# Altium schematic symbol library EDR_Deliverybox.SCHLIB: 17 symbols
Pins are listed as number, name and electrical type; pins without a type are passive.

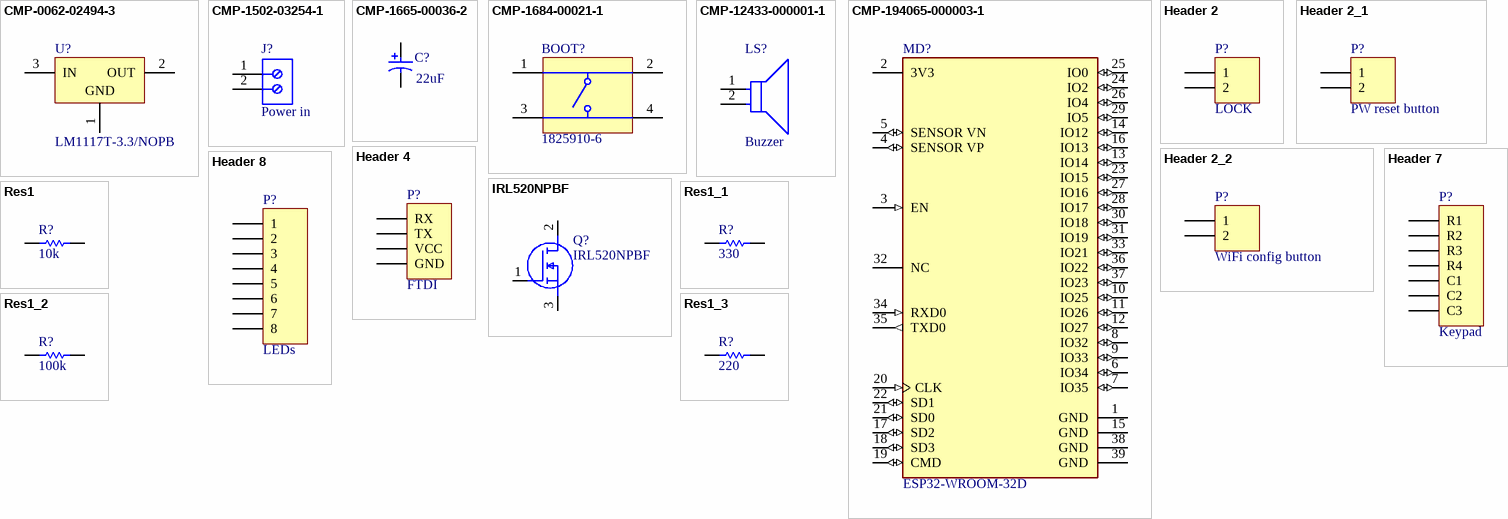
[diagram p0: symbols CMP-0062-02494-3 to Res1_3]

## CMP-0062-02494-3
designator U?, comment LM1117T-3.3/NOPB
800mA Low-Dropout Linear Regulator, 3-pin TO-220, Pb-Free; Manufacturer: Texas Instruments; Manufacturer: TI National Semiconductor; PackageTopMarking: NSUZXYTTE#*LM1117T*3.3; PowerWise: N; CompType: LDO IC; RoHS: Y; ComponentLink1URL: http://www.ti.com/general/docs/lit/getliterature.tsp?genericPartNumber=LM1117-N&fileType=pdf; PackageReference: NDE0003A; PinCount: 3; ComponentLink1Description: Datasheet URL; PackageDescription: TO-220, Molded, 3 Lead, Straight; Manufacturer Part Number: LM1117T-3.3/NOPB
footprint NDE0003A (FM, 3-Leads, Body 10.7x4.7mm, Pitch 2.54mm)
pins: 1 GND (power), 2 OUT (power), 3 IN (power)

## CMP-1502-03254-1
designator J?, comment Power in
Series 1031 - 3.50 mm Horizontal Entry Modular with Pressure Clamp WR-TBL, 2 pin; Manufacturer: Wurth Elektronik; Part Number: 691103110002; Manufacturer: Wurth Electronics; Pin Number: 2; Pitch: 3.50mm; Datasheet URL: http://katalog.we-online.de/em/datasheet/6911031100xx.pdf; Package Reference: 691103110002; Publisher: WurthElektronik; Manufacturer URL: http://www.we-online.de; Mounting Technology: THT; Operating Temperature: -40to105degC; Packaging: Box; Manufacturer Part Number: 691103110002
footprint 691103110002 (3,50mm - modular - blue - Horizontal wire entry - Pressure clamp - 8,4mm height - 02p)
pins: 1, 2

## CMP-1665-00036-2
designator C?, comment 22uF
Aluminum Electrolytic Capacitor, 22 uF, +/- 20%, 50 V, -40 to 85 degC, 2-Pin THD, RoHS, Bulk; Manufacturer: Panasonic; Manufacturer Part Number: ECA-1HM220; Ripple Current: 100mA; Life (Hours): 2000Hour; Voltage: 50V; Dissipation Factor: 0.12%; Leakage Current: 3uA; Lead/Base Style: Straight; Lead Diameter: 0.5mm; Max Operating Temperature: 85degC; Height: 11mm; Package Reference: CAPPR55-200-1100X500X1200; Radiation Hardening: No; RoHSCompliant: true; Termination: Radial; Case/Package: Radial; REACH SVHC: NoSVHC; Height - Seated (Max): 0.472inch; Min Operating Temperature: -40degC; Packaging: Bulk; Manufacturer URL: http://www.panasonic.com/; Length: 11mm; Tolerance: 20%; Voltage Rating: 50V; Voltage Rating (DC): 50V; Datasheet URL: https://industrial.panasonic.com/cdbs/www-data/pdf/RDF0000/ABA0000C1218.pdf; Lead Pitch: 2mm; Ripple Current (AC): 100mA; Package Description: 2-Pin Radial Lead, Dia 5 mm, Height 12 mm; Diameter: 5mm; Capacitance: 22uF; Datasheet Version: Rev. 05, 10/2016; Package Quantity: 200; Mount: ThroughHole
footprint CAPPR55-200-1100X500X1200 (THD, 2-Leads, Dia 5mm, Body Length 11mm)
pins: 1, 2

## CMP-1684-00021-1
designator BOOT?, comment 1825910-6
Tact Switch, SPST-NO, 0.05 A, -35 to 85 degC, 4-Pin THD, RoHS, Bulk; Manufacturer: TE Connectivity; Manufacturer: TE Connectivity Alcoswitch; Maximum Contact Resistance: 100mOhm; Mechanical Life: 100000Cycles; Bushing Type: Unthreaded; Switch Configuration: OFF(ON); Maximum DC Voltage Rating: 24V; Contact Rating @ Voltage: 0.05A@24VDC; Actuator Color: Black; Body Orientation: Straight; Function: MomentaryContact; Illumination: N/R; Actuator Style: RoundButton; Actuator Material: PolybutyleneTerephthalate; Dielectric Strength: 500VAC; Pole Throw Configuration: SPST; Actuator Length: 1.4mm; Product Weight: N/A; Contact Material: CopperAlloy; Housing Material: N/A; Terminal Type: PCPins; Minimum Insulation Resistance: 100MOhm; Package Description: 4-Pin Through Hole Device, Body 5.99 x 5.99 mm, Pitch 6.5 mm; Part No: 1825910-6; Package Reference: THD; Base Material: N/A; Manufacturer URL: http://www.te.com; Contact Plating: Silver; RoHS: Yes; Datasheet Version: Rev. C9; Electrical Life: 100000Cycles; Maximum AC Voltage Rating: N/A; Thread Size: N/R; Operating Temperature: -35to85C; Mounting: ThroughHole; Dimension: 5.99x5mm; Datasheet URL: http://www.te.com/commerce/DocumentDelivery/DDEController?Action=showdoc&DocId=Customer+Drawing%7F1825910%7FC9%7Fpdf%7FEnglish%7FENG_CD_1825910_C9.pdf%7F1825910-6; Family: 1825910; Seal Location: N/A; Seal Description: N/A; Packaging: N/A; Manufacturer Part Number: 1825910-6
footprint TECO-1825910-6_V (Switch, 4-Leads, Body 5.99x5.99mm)
pins: 1, 2, 3, 4

## CMP-12433-000001-1
designator LS?, comment Buzzer
MAGNETIC BUZZER AND TRANSDUCER - More Details; Manufacturer Part Number: MCKPX-G1203A-K4056; Manufacturer: Multicomp Pro; Manufacturer: Multicomp; Operating Supply Voltage: 3V; Current: 30mA; Frequency: 2300Hz; Max Supply Voltage: 5V; Min Supply Voltage: 2V; Standoff Height: 0.5mm; ComponentLink2Description: Datasheet; ComponentLink2URL: http://www.farnell.com/datasheets/1498149.pdf?_ga=2.17855225.1157923166.1572356775-536200964.1569240579; Temperature Range High: +70°C; Device Class L2: Audio Products; Temperature Range Low: -20°C; Package: 0; Temperature: -20°C to +70°C; Category: Speak; Octopart: https://octopart.com/mckpx-g1203a-k4056-multicomp-12157154; RoHS: TRUE; Lead Free: Yes; Height: 9.5mm; Device Class L1: Electromechanical; Automotive: No; Device Class L3: Buzzers
footprint FP-MCKPX-G1203A-K4056-MFG
pins: 1 C, 2 A

## CMP-194065-000003-1
designator MD?, comment ESP32-WROOM-32D
WIFI MODULE 32MBITS SPI FLASH; Manufacturer: Espressif Systems; Max Supply Voltage: 3.6V; Nominal Supply Current: 500mA; Max Frequency: 2484MHz; Number Of Adc Channels: 16; Number Of Gpio: 32; Interface: I2C,SPI,UART,Ethernet,I2S,Other; Data Rate: 150Mbits/s; Min Supply Voltage: 3V; Bandwidth: 72MHz; Sensitivity: -98dBm; Octopart: https://octopart.com/esp32-wroom-32d-espressif+systems-91040050; Package: ESP32-WROOM-32D; ComponentLink2URL: https://www.espressif.com/sites/default/files/documentation/esp32-wroom-32d_esp32-wroom-32u_datasheet_en.pdf; Lead Free: Yes; Category: UNK; Mouser Description: Wi-Fi/BT BLE Module ESP32-D0WD, SPI Flash, UART, P; Device Class L1: Integrated Circuits (ICs); RoHS: TRUE; Temperature Range Low: -40°C; ComponentLink2Description: Datasheet; Digikey Description: WIFI MODULE 32MBITS SPI FLASH; Height: 3.2mm; Temperature: -40°C to +85°C; Manufacturer Part Number: ESP32-WROOM-32D; Device Class L3: Transceivers; Device Class L2: RF Semiconductors and Devices; Temperature Range High: +85°C; Automotive: No
footprint FP-ESP32-WROOM-32D-MFG
pins: 1 GND (power), 2 3V3 (power), 3 EN (in), 4 SENSOR VP (io), 5 SENSOR VN (io), 6 IO34 (io), 7 IO35 (io), 8 IO32 (io), 9 IO33 (io), 10 IO25 (io), 11 IO26 (io), 12 IO27 (io), 13 IO14 (io), 14 IO12 (io), 15 GND (power), 16 IO13 (io), 17 SD2 (io), 18 SD3 (io), 19 CMD (io), 20 CLK (in), 21 SD0 (io), 22 SD1 (io), 23 IO15 (io), 24 IO2 (io), 25 IO0 (io), 26 IO4 (io), 27 IO16 (io), 28 IO17 (io), 29 IO5 (io), 30 IO18 (io), 31 IO19 (io), 32 NC, 33 IO21 (io), 34 RXD0 (in), 35 TXD0 (out), 36 IO22 (io), 37 IO23 (io), 38 GND (power), 39 GND (power)

## Header 2
designator P?, comment LOCK
Header, 2-Pin; LatestRevisionDate: 17-Jul-2002; LatestRevisionNote: Re-released for DXP Platform.; Publisher: Altium Limited
footprint HDR1X2 (Connector; Header; 2 Position)
signal-integrity model Connector
pins: 1, 2

## Header 2_1
designator P?, comment PW reset button
Header, 2-Pin; LatestRevisionDate: 17-Jul-2002; LatestRevisionNote: Re-released for DXP Platform.; Publisher: Altium Limited
footprint HDR1X2 (Connector; Header; 2 Position)
signal-integrity model Connector
pins: 1, 2

## Header 2_2
designator P?, comment WiFi config button
Header, 2-Pin; LatestRevisionDate: 17-Jul-2002; LatestRevisionNote: Re-released for DXP Platform.; Publisher: Altium Limited
footprint HDR1X2 (Connector; Header; 2 Position)
signal-integrity model Connector
pins: 1, 2

## Header 4
designator P?, comment FTDI
Header, 4-Pin; LatestRevisionDate: 17-Jul-2002; LatestRevisionNote: Re-released for DXP Platform.; Publisher: Altium Limited
footprint HDR1X4 (Connector; Header; 4 Position)
signal-integrity model Connector
pins: 1 RX, 2 TX, 3 VCC, 4 GND

## Header 7
designator P?, comment Keypad
Header, 7-Pin; LatestRevisionDate: 17-Jul-2002; LatestRevisionNote: Re-released for DXP Platform.; Publisher: Altium Limited
footprint HDR1X7 (Connector; Header; 7 Position)
signal-integrity model Connector
pins: 1 R1, 2 R2, 3 R3, 4 R4, 5 C1, 6 C2, 7 C3

## Header 8
designator P?, comment LEDs
Header, 8-Pin; LatestRevisionDate: 17-Jul-2002; LatestRevisionNote: Re-released for DXP Platform.; Publisher: Altium Limited
footprint HDR1X8 (Connector; Header; 8 Position)
signal-integrity model Connector
pins: 1, 2, 3, 4, 5, 6, 7, 8

## IRL520NPBF
designator Q?
MOSFET (N-Channel); Manufacturer_Name: Infineon; Datasheet Link: https://www.infineon.com/dgdl/irl520npbf.pdf?fileId=5546d462533600a40153565f9b62255b; Height: 4.69mm; Manufacturer_Part_Number: IRL520NPBF; Mouser Part Number: 942-IRL520NPBF; Mouser Price/Stock: https://www.mouser.co.uk/ProductDetail/Infineon-Technologies/IRL520NPBF?qs=9%252BKlkBgLFf3eZ5ppEpIaKQ%3D%3D; Arrow Part Number: IRL520NPBF; Arrow Price/Stock: https://www.arrow.com/en/products/irl520npbf/infineon-technologies-ag?region=nac
footprint TO254P469X1042X1967-3P
pins: 1 G, 2 D, 3 S

## Res1
designator R?  value 10k
Resistor; Published: 8-Jun-2000; LatestRevisionDate: 17-Jul-2002; LatestRevisionNote: Re-released for DXP Platform.; PackageReference: AXIAL-0.3; Publisher: Altium Limited; PackageDescription: Axial Device, Thru-Hole; 2 Leads; 0.3 in Pin Spacing
footprint AXIAL-0.3 (Axial Device, Thru-Hole; 2 Leads; 0.3 in Pin Spacing)
simulation model RESISTOR (Resistor)
signal-integrity model Res
pins: 1, 2

## Res1_1
designator R?, comment 330
Resistor; Published: 8-Jun-2000; LatestRevisionDate: 17-Jul-2002; LatestRevisionNote: Re-released for DXP Platform.; PackageReference: AXIAL-0.3; Publisher: Altium Limited; PackageDescription: Axial Device, Thru-Hole; 2 Leads; 0.3 in Pin Spacing
footprint AXIAL-0.3 (Axial Device, Thru-Hole; 2 Leads; 0.3 in Pin Spacing)
simulation model RESISTOR (Resistor)
signal-integrity model Res
pins: 1, 2

## Res1_2
designator R?  value 100k
Resistor; Published: 8-Jun-2000; LatestRevisionDate: 17-Jul-2002; LatestRevisionNote: Re-released for DXP Platform.; PackageReference: AXIAL-0.3; Publisher: Altium Limited; PackageDescription: Axial Device, Thru-Hole; 2 Leads; 0.3 in Pin Spacing
footprint AXIAL-0.3 (Axial Device, Thru-Hole; 2 Leads; 0.3 in Pin Spacing)
simulation model RESISTOR (Resistor)
signal-integrity model Res
pins: 1, 2

## Res1_3
designator R?  value 220
Resistor; Published: 8-Jun-2000; LatestRevisionDate: 17-Jul-2002; LatestRevisionNote: Re-released for DXP Platform.; PackageReference: AXIAL-0.3; Publisher: Altium Limited; PackageDescription: Axial Device, Thru-Hole; 2 Leads; 0.3 in Pin Spacing
footprint AXIAL-0.3 (Axial Device, Thru-Hole; 2 Leads; 0.3 in Pin Spacing)
simulation model RESISTOR (Resistor)
signal-integrity model Res
pins: 1, 2